# EAGLE library part LATTE_PANDA (library LattePanda)
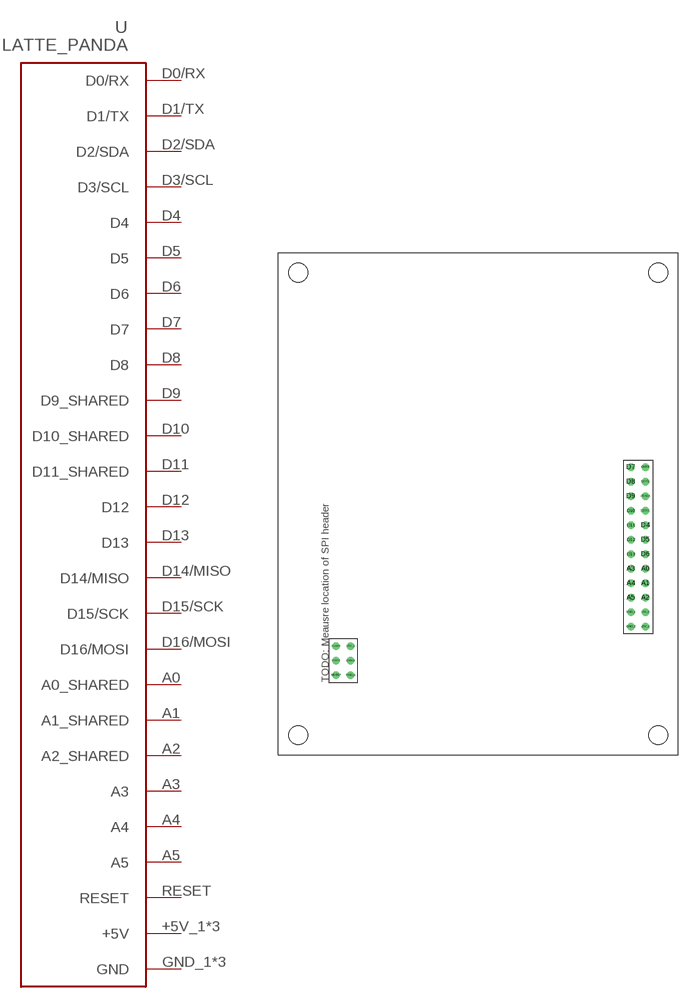
[diagram p0: symbol with the pads of LATTE_PANDA; footprint LATTE_PANDA]

Designator prefix -

## LATTE_PANDA  [LATTE_PANDA]
+5V_1  +5V  pwr
+5V_2  +5V  pwr
+5V_3  +5V  pwr
A0  A0_SHARED
A1  A1_SHARED
A2  A2_SHARED
A3  A3
A4  A4
A5  A5
D0/RX  D0/RX
D1/TX  D1/TX
D2/SDA  D2/SDA
D3/SCL  D3/SCL
D4  D4
D5  D5
D6  D6
D7  D7
D8  D8
D9  D9_SHARED
D10  D10_SHARED
D11  D11_SHARED
D12  D12
D13  D13
D14/MISO  D14/MISO
D15/SCK  D15/SCK
D16/MOSI  D16/MOSI
GND_1  GND  pwr
GND_2  GND  pwr
GND_3  GND  pwr
RESET  RESET  in

## Footprint LATTE_PANDA (pad centres in mm)
drill 0.8: +5V_1 64.27,25.01; +5V_2 64.27,22.47; +5V_3 12.7,19.05; A0 64.27,32.63; A1 64.27,30.09; A2 64.27,27.55; A3 61.73,32.63; A4 61.73,30.09; A5 61.73,27.55; D0/RX 64.27,50.41; D1/TX 64.27,47.87; D2/SDA 64.27,45.33; D3/SCL 64.27,42.79; D4 64.27,40.25; D5 64.27,37.71; D6 64.27,35.17; D7 61.73,50.41; D8 61.73,47.87; D9 61.73,45.33; D10 61.73,42.79; D11 61.73,40.25; D12 61.73,37.71; D13 61.73,35.17; D14/MISO 10.16,19.05; D15/SCK 10.16,16.51; D16/MOSI 12.7,16.51; GND_1 61.73,25.01; GND_2 61.73,22.47; GND_3 12.7,13.97; RESET 10.16,13.97
hole 3.3 at 66.5,84.5
hole 3.3 at 3.5,3.5
hole 3.3 at 66.5,3.5
hole 3.3 at 3.5,84.5